# Altium schematic symbol library 3296W-FM1-502.SchLib: 1 symbol
Pins are listed as number, name and electrical type; pins without a type are passive.

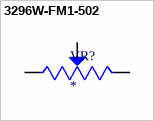
[diagram p0: symbol 3296W-FM1-502]

## 3296W-FM1-502
designator VR?
Trimmer Resistors - Through Hole; MP: 3296W-FM1-502; MF: Bourns; Availability: Warning; SnapEDA_Link: https://www.snapeda.com/parts/3296W-FM1-502/Bourns/view-part/3211169/?ref=snap; Package: None; Price: None; Value: *; Check_prices: https://www.snapeda.com/parts/3296W-FM1-502/Bourns/view-part/3211169/?ref=eda
footprint TRIM_3296W-FM1-502
pins: 1 CCW, 2 WIPER, 3 CW